# EAGLE library part AT24C08 (library AT24C08)
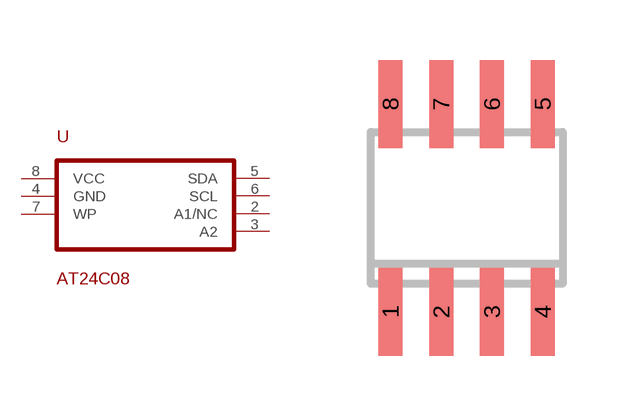
[diagram p0: symbol with the pads of SO8; footprint SO8]

Designator prefix -

## AT24C08  [SO8]
2  A1/NC
3  A2
4  GND
5  SDA
6  SCL
7  WP
8  VCC

## Footprint SO8 (pad centres in mm)
smd 0.6 x 2.2: 1 -1.905,-2.6; 2 -0.635,-2.6; 3 0.635,-2.6; 4 1.905,-2.6; 5 1.905,2.6; 6 0.635,2.6; 7 -0.635,2.6; 8 -1.905,2.6